# Altium integrated library Ferrite Chip.IntLib: 462 symbols (part 1 of 7)
Pins are listed as number, name and electrical type; pins without a type are passive.

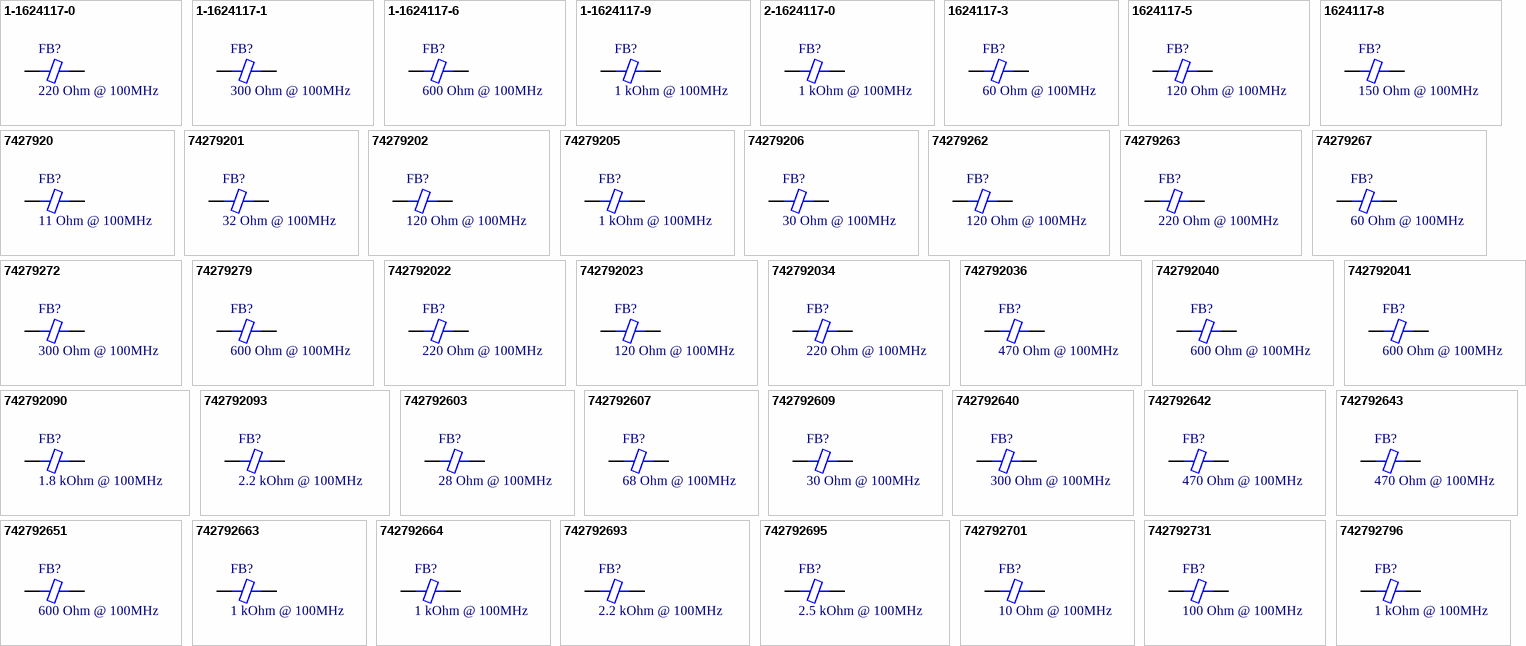
[diagram p0: symbols 1-1624117-0 to 742792796]

## 1-1624117-0
designator FB?, comment 220 Ohm @ 100MHz
FERRITE CHIP 220 OHM 250MA 0805; Part Number: 1-1624117-0; Manufacturer: TE Connectivity AMP Connectors; Type: Differential Mode - Single; DC Resistance: 500 mOhm Max; PartId: 6825; Value: 220 Ohm @ 100MHz; Supplier 1: Digi-Key; Supplier Part Number 1: A103650TR-ND; ComponentLink1Description: Datasheet; ComponentLink1URL: http://www.te.com/commerce/DocumentDelivery/DDEController?Action=srchrtrv&DocNm=1773178&DocType=DS&DocLang=English; ComponentLink2Description: Digi-Key listing; ComponentLink2URL: http://digikey.com/product-detail/en/1-1624117-0/A103650TR-ND/2055834; Price: 0.0445; Device Package: 0805 (2012 Metric); Current Rating: 250mA
footprint FER 0805/2012
pins: 1, 2

## 1-1624117-1
designator FB?, comment 300 Ohm @ 100MHz
FERRITE CHIP 300 OHM 250MA 0805; Part Number: 1-1624117-1; Manufacturer: TE Connectivity AMP Connectors; Type: Differential Mode - Single; DC Resistance: 500 mOhm Max; PartId: 6834; Value: 300 Ohm @ 100MHz; Supplier 1: Digi-Key; Supplier Part Number 1: A102195TR-ND; ComponentLink1Description: Datasheet; ComponentLink1URL: http://www.te.com/commerce/DocumentDelivery/DDEController?Action=srchrtrv&DocNm=1773178&DocType=DS&DocLang=English; ComponentLink2Description: Digi-Key listing; ComponentLink2URL: http://digikey.com/product-detail/en/1-1624117-1/A102195TR-ND/2054597; Price: 0.0617; Device Package: 0805 (2012 Metric); Current Rating: 250mA
footprint FER 0805/2012
pins: 1, 2

## 1-1624117-6
designator FB?, comment 600 Ohm @ 100MHz
FERRITE CHIP 600 OHM 200MA 0805; Part Number: 1-1624117-6; Manufacturer: TE Connectivity AMP Connectors; Type: Differential Mode - Single; DC Resistance: 600 mOhm Max; PartId: 6841; Value: 600 Ohm @ 100MHz; Supplier 1: Digi-Key; Supplier Part Number 1: A102196TR-ND; ComponentLink1Description: Datasheet; ComponentLink1URL: http://www.te.com/commerce/DocumentDelivery/DDEController?Action=srchrtrv&DocNm=1773179&DocType=DS&DocLang=English; ComponentLink2Description: Digi-Key listing; ComponentLink2URL: http://digikey.com/product-detail/en/1-1624117-6/A102196TR-ND/2054598; Price: 0.0789; Device Package: 0805 (2012 Metric); Current Rating: 200mA
footprint FER 0805/2012
pins: 1, 2

## 1-1624117-9
designator FB?, comment 1 kOhm @ 100MHz
FERRITE CHIP 1K OHM 200MA 0805; Part Number: 1-1624117-9; Manufacturer: TE Connectivity AMP Connectors; Type: Differential Mode - Single; DC Resistance: 800 mOhm Max; PartId: 6842; Value: 1 kOhm @ 100MHz; Supplier 1: Digi-Key; Supplier Part Number 1: A103651TR-ND; ComponentLink1Description: Datasheet; ComponentLink1URL: http://www.te.com/commerce/DocumentDelivery/DDEController?Action=srchrtrv&DocNm=1773179&DocType=DS&DocLang=English; ComponentLink2Description: Digi-Key listing; ComponentLink2URL: http://digikey.com/product-detail/en/1-1624117-9/A103651TR-ND/2055836; Price: 0.0855; Device Package: 0805 (2012 Metric); Current Rating: 200mA
footprint FER 0805/2012
pins: 1, 2

## 2-1624117-0
designator FB?, comment 1 kOhm @ 100MHz
FERRITE CHIP 1K OHM 350MA 0805; Part Number: 2-1624117-0; Manufacturer: TE Connectivity AMP Connectors; Type: Differential Mode - Single; DC Resistance: 300 mOhm Max; PartId: 6836; Value: 1 kOhm @ 100MHz; Supplier 1: Digi-Key; Supplier Part Number 1: A102197TR-ND; ComponentLink1Description: Datasheet; ComponentLink1URL: http://www.te.com/commerce/DocumentDelivery/DDEController?Action=srchrtrv&DocNm=1773181&DocType=DS&DocLang=English; ComponentLink2Description: Digi-Key listing; ComponentLink2URL: http://digikey.com/product-detail/en/2-1624117-0/A102197TR-ND/2054602; Price: 0.076; Device Package: 0805 (2012 Metric); Current Rating: 350mA
footprint FER 0805/2012
pins: 1, 2

## 1624117-3
designator FB?, comment 60 Ohm @ 100MHz
FERRITE CHIP 60 OHM 850MA 0805; Part Number: 1624117-3; Manufacturer: TE Connectivity AMP Connectors; Type: Differential Mode - Single; DC Resistance: 50 mOhm Max; PartId: 6835; Value: 60 Ohm @ 100MHz; Supplier 1: Digi-Key; Supplier Part Number 1: A102077TR-ND; ComponentLink1Description: Datasheet; ComponentLink1URL: http://www.te.com/commerce/DocumentDelivery/DDEController?Action=srchrtrv&DocNm=1773181&DocType=DS&DocLang=English; ComponentLink2Description: Digi-Key listing; ComponentLink2URL: http://digikey.com/product-detail/en/1624117-3/A102077TR-ND/2054600; Price: 0.0757; Device Package: 0805 (2012 Metric); Current Rating: 850mA
footprint FER 0805/2012
pins: 1, 2

## 1624117-5
designator FB?, comment 120 Ohm @ 100MHz
FERRITE CHIP 120 OHM 300MA 0805; Part Number: 1624117-5; Manufacturer: TE Connectivity AMP Connectors; Type: Differential Mode - Single; DC Resistance: 300 mOhm Max; PartId: 6827; Value: 120 Ohm @ 100MHz; Supplier 1: Digi-Key; Supplier Part Number 1: A102194TR-ND; ComponentLink1Description: Datasheet; ComponentLink1URL: http://www.te.com/commerce/DocumentDelivery/DDEController?Action=srchrtrv&DocNm=1773178&DocType=DS&DocLang=English; ComponentLink2Description: Digi-Key listing; ComponentLink2URL: http://digikey.com/product-detail/en/1624117-5/A102194TR-ND/2054601; Price: 0.0446; Device Package: 0805 (2012 Metric); Current Rating: 300mA
footprint FER 0805/2012
pins: 1, 2

## 1624117-8
designator FB?, comment 150 Ohm @ 100MHz
FERRITE CHIP 150 OHM 300MA 0805; Part Number: 1624117-8; Manufacturer: TE Connectivity AMP Connectors; Type: Differential Mode - Single; DC Resistance: 300 mOhm Max; PartId: 6826; Value: 150 Ohm @ 100MHz; Supplier 1: Digi-Key; Supplier Part Number 1: A102573TR-ND; ComponentLink1Description: Datasheet; ComponentLink1URL: http://www.te.com/commerce/DocumentDelivery/DDEController?Action=srchrtrv&DocNm=1773178&DocType=DS&DocLang=English; ComponentLink2Description: Digi-Key listing; ComponentLink2URL: http://digikey.com/product-detail/en/1624117-8/A102573TR-ND/2363608; Price: 0.0445; Device Package: 0805 (2012 Metric); Current Rating: 300mA
footprint FER 0805/2012
pins: 1, 2

## 7427920
designator FB?, comment 11 Ohm @ 100MHz
FERRITE CHIP 11 OHM .60A 0805; Part Number: 7427920; Manufacturer: Wurth Electronics Inc; Type: Differential Mode - Single; DC Resistance: 150 mOhm Max; Current Rating: 600mA; PartId: 6856; Value: 11 Ohm @ 100MHz; Supplier 1: Digi-Key; Supplier Part Number 1: 732-1616-2-ND; ComponentLink1Description: Datasheet; ComponentLink1URL: http://katalog.we-online.de/pbs/datasheet/7427920.pdf; ComponentLink2Description: Digi-Key listing; ComponentLink2URL: http://digikey.com/product-detail/en/7427920/732-1616-2-ND/1639020; Price: 0.2134; Device Package: 0805 (2012 Metric)
footprint FER 0805/2012
pins: 1, 2

## 74279201
designator FB?, comment 32 Ohm @ 100MHz
FERRITE CHIP 32 OHM .50A 0805; Part Number: 74279201; Manufacturer: Wurth Electronics Inc; Type: Differential Mode - Single; DC Resistance: 150 mOhm Max; Current Rating: 500mA; PartId: 6857; Value: 32 Ohm @ 100MHz; Supplier 1: Digi-Key; Supplier Part Number 1: 732-1599-2-ND; ComponentLink1Description: Datasheet; ComponentLink1URL: http://katalog.we-online.de/pbs/datasheet/74279201.pdf; ComponentLink2Description: Digi-Key listing; ComponentLink2URL: http://digikey.com/product-detail/en/74279201/732-1599-2-ND/1639003; Price: 0.2134; Device Package: 0805 (2012 Metric)
footprint FER 0805/2012
pins: 1, 2

## 74279202
designator FB?, comment 120 Ohm @ 100MHz
FERRITE CHIP 120 OHM .50A 0805; Part Number: 74279202; Manufacturer: Wurth Electronics Inc; Type: Differential Mode - Single; DC Resistance: 100 mOhm Max; Current Rating: 500mA; PartId: 6851; Value: 120 Ohm @ 100MHz; Supplier 1: Digi-Key; Supplier Part Number 1: 732-1601-2-ND; ComponentLink1Description: Datasheet; ComponentLink1URL: http://katalog.we-online.de/pbs/datasheet/74279202.pdf; ComponentLink2Description: Digi-Key listing; ComponentLink2URL: http://digikey.com/product-detail/en/74279202/732-1601-2-ND/1639005; Price: 0.2134; Device Package: 0805 (2012 Metric)
footprint FER 0805/2012
pins: 1, 2

## 74279205
designator FB?, comment 1 kOhm @ 100MHz
FERRITE CHIP 1000 OHM .20A 0805; Part Number: 74279205; Manufacturer: Wurth Electronics Inc; Type: Differential Mode - Single; DC Resistance: 450 mOhm Max; Current Rating: 200mA; PartId: 6850; Value: 1 kOhm @ 100MHz; Supplier 1: Digi-Key; Supplier Part Number 1: 732-1606-2-ND; ComponentLink1Description: Datasheet; ComponentLink1URL: http://katalog.we-online.de/pbs/datasheet/74279205.pdf; ComponentLink2Description: Digi-Key listing; ComponentLink2URL: http://digikey.com/product-detail/en/74279205/732-1606-2-ND/1639010; Price: 0.2134; Device Package: 0805 (2012 Metric)
footprint FER 0805/2012
pins: 1, 2

## 74279206
designator FB?, comment 30 Ohm @ 100MHz
FERRITE CHIP 30 OHM 3.0A 0805; Part Number: 74279206; Manufacturer: Wurth Electronics Inc; Type: Differential Mode - Single; DC Resistance: 25 mOhm Max; Current Rating: 3A; PartId: 6862; Value: 30 Ohm @ 100MHz; Supplier 1: Digi-Key; Supplier Part Number 1: 732-1611-2-ND; ComponentLink1Description: Datasheet; ComponentLink1URL: http://katalog.we-online.de/pbs/datasheet/74279206.pdf; ComponentLink2Description: Digi-Key listing; ComponentLink2URL: http://digikey.com/product-detail/en/74279206/732-1611-2-ND/1639015; Price: 0.2286; Device Package: 0805 (2012 Metric)
footprint FER 0805/2012
pins: 1, 2

## 74279262
designator FB?, comment 120 Ohm @ 100MHz
FERRITE CHIP 120 OHM .5A 0603; Part Number: 74279262; Manufacturer: Wurth Electronics Inc; Type: Differential Mode - Single; DC Resistance: 300 mOhm Max; Current Rating: 500mA; PartId: 6746; Value: 120 Ohm @ 100MHz; Supplier 1: Digi-Key; Supplier Part Number 1: 732-1594-2-ND; ComponentLink1Description: Datasheet; ComponentLink1URL: http://katalog.we-online.de/pbs/datasheet/74279262.pdf; ComponentLink2Description: Digi-Key listing; ComponentLink2URL: http://digikey.com/product-detail/en/74279262/732-1594-2-ND/1638998; Price: 0.1829; Device Package: 0603 (1608 Metric)
footprint FER 0603/1608
pins: 1, 2

## 74279263
designator FB?, comment 220 Ohm @ 100MHz
FERRITE CHIP 220 OHM .5A 0603; Part Number: 74279263; Manufacturer: Wurth Electronics Inc; Type: Differential Mode - Single; DC Resistance: 300 mOhm Max; Current Rating: 500mA; PartId: 6747; Value: 220 Ohm @ 100MHz; Supplier 1: Digi-Key; Supplier Part Number 1: 732-1581-2-ND; ComponentLink1Description: Datasheet; ComponentLink1URL: http://katalog.we-online.de/pbs/datasheet/74279263.pdf; ComponentLink2Description: Digi-Key listing; ComponentLink2URL: http://digikey.com/product-detail/en/74279263/732-1581-2-ND/1638985; Price: 0.1829; Device Package: 0603 (1608 Metric)
footprint FER 0603/1608
pins: 1, 2

## 74279267
designator FB?, comment 60 Ohm @ 100MHz
FERRITE CHIP 60 OHM .5A 0603; Part Number: 74279267; Manufacturer: Wurth Electronics Inc; Type: Differential Mode - Single; DC Resistance: 300 mOhm Max; Current Rating: 500mA; PartId: 6750; Value: 60 Ohm @ 100MHz; Supplier 1: Digi-Key; Supplier Part Number 1: 732-1595-2-ND; ComponentLink1Description: Datasheet; ComponentLink1URL: http://katalog.we-online.de/pbs/datasheet/74279267.pdf; ComponentLink2Description: Digi-Key listing; ComponentLink2URL: http://digikey.com/product-detail/en/74279267/732-1595-2-ND/1638999; Price: 0.1829; Device Package: 0603 (1608 Metric)
footprint FER 0603/1608
pins: 1, 2

## 74279272
designator FB?, comment 300 Ohm @ 100MHz
FERRITE CHIP 300 OHM .2A 0402; Part Number: 74279272; Manufacturer: Wurth Electronics Inc; Type: Differential Mode - Single; DC Resistance: 800 mOhm Max; Current Rating: 200mA; PartId: 6569; Value: 300 Ohm @ 100MHz; Supplier 1: Digi-Key; Supplier Part Number 1: 732-1572-2-ND; ComponentLink1Description: Datasheet; ComponentLink1URL: http://katalog.we-online.de/pbs/datasheet/74279272.pdf; ComponentLink2Description: Digi-Key listing; ComponentLink2URL: http://digikey.com/product-detail/en/74279272/732-1572-2-ND/1638976; Price: 0.1829; Device Package: 0402 (1005 Metric)
footprint FER 0402/1005
pins: 1, 2

## 74279279
designator FB?, comment 600 Ohm @ 100MHz
FERRITE CHIP 600 OHM .2A 0402; Part Number: 74279279; Manufacturer: Wurth Electronics Inc; Type: Differential Mode - Single; DC Resistance: 1 Ohm Max; Current Rating: 200mA; PartId: 6564; Value: 600 Ohm @ 100MHz; Supplier 1: Digi-Key; Supplier Part Number 1: 732-1573-2-ND; ComponentLink1Description: Datasheet; ComponentLink1URL: http://katalog.we-online.de/pbs/datasheet/74279279.pdf; ComponentLink2Description: Digi-Key listing; ComponentLink2URL: http://digikey.com/product-detail/en/74279279/732-1573-2-ND/1638977; Price: 0.1829; Device Package: 0402 (1005 Metric)
footprint FER 0402/1005
pins: 1, 2

## 742792022
designator FB?, comment 220 Ohm @ 100MHz
FERRITE CHIP 220 OHM 2.0A 0805; Part Number: 742792022; Manufacturer: Wurth Electronics Inc; Type: Differential Mode - Single; DC Resistance: 50 mOhm Max; Current Rating: 2A; PartId: 6861; Value: 220 Ohm @ 100MHz; Supplier 1: Digi-Key; Supplier Part Number 1: 732-1614-2-ND; ComponentLink1Description: Datasheet; ComponentLink1URL: http://katalog.we-online.de/pbs/datasheet/742792022.pdf; ComponentLink2Description: Digi-Key listing; ComponentLink2URL: http://digikey.com/product-detail/en/742792022/732-1614-2-ND/1639018; Price: 0.2286; Device Package: 0805 (2012 Metric)
footprint FER 0805/2012
pins: 1, 2

## 742792023
designator FB?, comment 120 Ohm @ 100MHz
FERRITE CHIP 120 OHM 3.0A 0805; Part Number: 742792023; Manufacturer: Wurth Electronics Inc; Type: Differential Mode - Single; DC Resistance: 30 mOhm Max; Current Rating: 3A; PartId: 6860; Value: 120 Ohm @ 100MHz; Supplier 1: Digi-Key; Supplier Part Number 1: 732-1613-2-ND; ComponentLink1Description: Datasheet; ComponentLink1URL: http://katalog.we-online.de/pbs/datasheet/742792023.pdf; ComponentLink2Description: Digi-Key listing; ComponentLink2URL: http://digikey.com/product-detail/en/742792023/732-1613-2-ND/1639017; Price: 0.2286; Device Package: 0805 (2012 Metric)
footprint FER 0805/2012
pins: 1, 2

## 742792034
designator FB?, comment 220 Ohm @ 100MHz
FERRITE CHIP 220 OHM .30A 0805; Part Number: 742792034; Manufacturer: Wurth Electronics Inc; Type: Differential Mode - Single; DC Resistance: 300 mOhm Max; Current Rating: 300mA; PartId: 6853; Value: 220 Ohm @ 100MHz; Supplier 1: Digi-Key; Supplier Part Number 1: 732-1602-2-ND; ComponentLink1Description: Datasheet; ComponentLink1URL: http://katalog.we-online.de/pbs/datasheet/742792034.pdf; ComponentLink2Description: Digi-Key listing; ComponentLink2URL: http://digikey.com/product-detail/en/742792034/732-1602-2-ND/1639006; Price: 0.2134; Device Package: 0805 (2012 Metric)
footprint FER 0805/2012
pins: 1, 2

## 742792036
designator FB?, comment 470 Ohm @ 100MHz
FERRITE CHIP 470 OHM .20A 0805; Part Number: 742792036; Manufacturer: Wurth Electronics Inc; Type: Differential Mode - Single; DC Resistance: 300 mOhm Max; Current Rating: 200mA; PartId: 6855; Value: 470 Ohm @ 100MHz; Supplier 1: Digi-Key; Supplier Part Number 1: 732-1603-2-ND; ComponentLink1Description: Datasheet; ComponentLink1URL: http://katalog.we-online.de/pbs/datasheet/742792036.pdf; ComponentLink2Description: Digi-Key listing; ComponentLink2URL: http://digikey.com/product-detail/en/742792036/732-1603-2-ND/1639007; Price: 0.2134; Device Package: 0805 (2012 Metric)
footprint FER 0805/2012
pins: 1, 2

## 742792040
designator FB?, comment 600 Ohm @ 100MHz
FERRITE CHIP 600 OHM 2.0A 0805; Part Number: 742792040; Manufacturer: Wurth Electronics Inc; Type: Differential Mode - Single; DC Resistance: 150 mOhm Max; Current Rating: 2A; PartId: 6859; Value: 600 Ohm @ 100MHz; Supplier 1: Digi-Key; Supplier Part Number 1: 732-1620-2-ND; ComponentLink1Description: Datasheet; ComponentLink1URL: http://katalog.we-online.de/pbs/datasheet/742792040.pdf; ComponentLink2Description: Digi-Key listing; ComponentLink2URL: http://digikey.com/product-detail/en/742792040/732-1620-2-ND/1639024; Price: 0.2286; Device Package: 0805 (2012 Metric)
footprint FER 0805/2012
pins: 1, 2

## 742792041
designator FB?, comment 600 Ohm @ 100MHz
FERRITE CHIP 600 OHM .20A 0805; Part Number: 742792041; Manufacturer: Wurth Electronics Inc; Type: Differential Mode - Single; DC Resistance: 400 mOhm Max; Current Rating: 200mA; PartId: 6858; Value: 600 Ohm @ 100MHz; Supplier 1: Digi-Key; Supplier Part Number 1: 732-1604-2-ND; ComponentLink1Description: Datasheet; ComponentLink1URL: http://katalog.we-online.de/pbs/datasheet/742792041.pdf; ComponentLink2Description: Digi-Key listing; ComponentLink2URL: http://digikey.com/product-detail/en/742792041/732-1604-2-ND/1639008; Price: 0.2134; Device Package: 0805 (2012 Metric)
footprint FER 0805/2012
pins: 1, 2

## 742792090
designator FB?, comment 1.8 kOhm @ 100MHz
FERRITE CHIP 1800 OHM .20A 0805; Part Number: 742792090; Manufacturer: Wurth Electronics Inc; Type: Differential Mode - Single; DC Resistance: 400 mOhm Max; Current Rating: 200mA; PartId: 6854; Value: 1.8 kOhm @ 100MHz; Supplier 1: Digi-Key; Supplier Part Number 1: 732-1608-2-ND; ComponentLink1Description: Datasheet; ComponentLink1URL: http://katalog.we-online.de/pbs/datasheet/742792090.pdf; ComponentLink2Description: Digi-Key listing; ComponentLink2URL: http://digikey.com/product-detail/en/742792090/732-1608-2-ND/1639012; Price: 0.2134; Device Package: 0805 (2012 Metric)
footprint FER 0805/2012
pins: 1, 2

## 742792093
designator FB?, comment 2.2 kOhm @ 100MHz
FERRITE CHIP 2200 OHM .20A 0805; Part Number: 742792093; Manufacturer: Wurth Electronics Inc; Type: Differential Mode - Single; DC Resistance: 600 mOhm Max; Current Rating: 200mA; PartId: 6852; Value: 2.2 kOhm @ 100MHz; Supplier 1: Digi-Key; Supplier Part Number 1: 732-1609-2-ND; ComponentLink1Description: Datasheet; ComponentLink1URL: http://katalog.we-online.de/pbs/datasheet/742792093.pdf; ComponentLink2Description: Digi-Key listing; ComponentLink2URL: http://digikey.com/product-detail/en/742792093/732-1609-2-ND/1639013; Price: 0.2134; Device Package: 0805 (2012 Metric)
footprint FER 0805/2012
pins: 1, 2

## 742792603
designator FB?, comment 28 Ohm @ 100MHz
FERRITE CHIP 28 OHM 4.0A 0603; Part Number: 742792603; Manufacturer: Wurth Electronics Inc; Type: Differential Mode - Single; DC Resistance: 30 mOhm Max; Current Rating: 4A; PartId: 6745; Value: 28 Ohm @ 100MHz; Supplier 1: Digi-Key; Supplier Part Number 1: 732-1590-2-ND; ComponentLink1Description: Datasheet; ComponentLink1URL: http://katalog.we-online.de/pbs/datasheet/742792603.pdf; ComponentLink2Description: Digi-Key listing; ComponentLink2URL: http://digikey.com/product-detail/en/742792603/732-1590-2-ND/1638994; Price: 0.1829; Device Package: 0603 (1608 Metric)
footprint FER 0603/1608
pins: 1, 2

## 742792607
designator FB?, comment 68 Ohm @ 100MHz
FERRITE CHIP 68 OHM .3A 0603; Part Number: 742792607; Manufacturer: Wurth Electronics Inc; Type: Differential Mode - Single; DC Resistance: 300 mOhm Max; Current Rating: 300mA; PartId: 6742; Value: 68 Ohm @ 100MHz; Supplier 1: Digi-Key; Supplier Part Number 1: 732-2267-2-ND; ComponentLink1Description: Datasheet; ComponentLink1URL: http://katalog.we-online.de/pbs/datasheet/742792607.pdf; ComponentLink2Description: Digi-Key listing; ComponentLink2URL: http://digikey.com/product-detail/en/742792607/732-2267-2-ND/2208843; Price: 0.1524; Device Package: 0603 (1608 Metric)
footprint FER 0603/1608
pins: 1, 2

## 742792609
designator FB?, comment 30 Ohm @ 100MHz
FERRITE CHIP 30 OHM 3.0A 0603; Part Number: 742792609; Manufacturer: Wurth Electronics Inc; Type: Differential Mode - Single; DC Resistance: 40 mOhm Max; Current Rating: 3A; PartId: 6744; Value: 30 Ohm @ 100MHz; Supplier 1: Digi-Key; Supplier Part Number 1: 732-1591-2-ND; ComponentLink1Description: Datasheet; ComponentLink1URL: http://katalog.we-online.de/pbs/datasheet/742792609.pdf; ComponentLink2Description: Digi-Key listing; ComponentLink2URL: http://digikey.com/product-detail/en/742792609/732-1591-2-ND/1638995; Price: 0.1829; Device Package: 0603 (1608 Metric)
footprint FER 0603/1608
pins: 1, 2

## 742792640
designator FB?, comment 300 Ohm @ 100MHz
FERRITE CHIP 300 OHM .3A 0603; Part Number: 742792640; Manufacturer: Wurth Electronics Inc; Type: Differential Mode - Single; DC Resistance: 350 mOhm Max; Current Rating: 300mA; PartId: 6738; Value: 300 Ohm @ 100MHz; Supplier 1: Digi-Key; Supplier Part Number 1: 732-1578-2-ND; ComponentLink1Description: Datasheet; ComponentLink1URL: http://katalog.we-online.de/pbs/datasheet/742792640.pdf; ComponentLink2Description: Digi-Key listing; ComponentLink2URL: http://digikey.com/product-detail/en/742792640/732-1578-2-ND/1638982; Price: 0.1524; Device Package: 0603 (1608 Metric)
footprint FER 0603/1608
pins: 1, 2

## 742792642
designator FB?, comment 470 Ohm @ 100MHz
FERRITE CHIP 470 OHM .2A 0603; Part Number: 742792642; Manufacturer: Wurth Electronics Inc; Type: Differential Mode - Single; DC Resistance: 450 mOhm Max; Current Rating: 200mA; PartId: 6751; Value: 470 Ohm @ 100MHz; Supplier 1: Digi-Key; Supplier Part Number 1: 732-1582-2-ND; ComponentLink1Description: Datasheet; ComponentLink1URL: http://katalog.we-online.de/pbs/datasheet/742792642.pdf; ComponentLink2Description: Digi-Key listing; ComponentLink2URL: http://digikey.com/product-detail/en/742792642/732-1582-2-ND/1638986; Price: 0.1829; Device Package: 0603 (1608 Metric)
footprint FER 0603/1608
pins: 1, 2

## 742792643
designator FB?, comment 470 Ohm @ 100MHz
FERRITE CHIP 470 OHM .4A 0603; Part Number: 742792643; Manufacturer: Wurth Electronics Inc; Type: Differential Mode - Single; DC Resistance: 350 mOhm Max; Current Rating: 400mA; PartId: 6739; Value: 470 Ohm @ 100MHz; Supplier 1: Digi-Key; Supplier Part Number 1: 732-2266-2-ND; ComponentLink1Description: Datasheet; ComponentLink1URL: http://katalog.we-online.de/pbs/datasheet/742792643.pdf; ComponentLink2Description: Digi-Key listing; ComponentLink2URL: http://digikey.com/product-detail/en/742792643/732-2266-2-ND/2208842; Price: 0.1524; Device Package: 0603 (1608 Metric)
footprint FER 0603/1608
pins: 1, 2

## 742792651
designator FB?, comment 600 Ohm @ 100MHz
FERRITE CHIP 600 OHM 1.0A 0603; Part Number: 742792651; Manufacturer: Wurth Electronics Inc; Type: Differential Mode - Single; DC Resistance: 200 mOhm Max; Current Rating: 1A; PartId: 6743; Value: 600 Ohm @ 100MHz; Supplier 1: Digi-Key; Supplier Part Number 1: 732-1593-2-ND; ComponentLink1Description: Datasheet; ComponentLink1URL: http://katalog.we-online.de/pbs/datasheet/742792651.pdf; ComponentLink2Description: Digi-Key listing; ComponentLink2URL: http://digikey.com/product-detail/en/742792651/732-1593-2-ND/1638997; Price: 0.1829; Device Package: 0603 (1608 Metric)
footprint FER 0603/1608
pins: 1, 2

## 742792663
designator FB?, comment 1 kOhm @ 100MHz
FERRITE CHIP 1000 OHM .1A 0603; Part Number: 742792663; Manufacturer: Wurth Electronics Inc; Type: Differential Mode - Single; DC Resistance: 850 mOhm Max; Current Rating: 100mA; PartId: 6741; Value: 1 kOhm @ 100MHz; Supplier 1: Digi-Key; Supplier Part Number 1: 732-1585-2-ND; ComponentLink1Description: Datasheet; ComponentLink1URL: http://katalog.we-online.de/pbs/datasheet/742792663.pdf; ComponentLink2Description: Digi-Key listing; ComponentLink2URL: http://digikey.com/product-detail/en/742792663/732-1585-2-ND/1638989; Price: 0.1524; Device Package: 0603 (1608 Metric)
footprint FER 0603/1608
pins: 1, 2

## 742792664
designator FB?, comment 1 kOhm @ 100MHz
FERRITE CHIP 1000 OHM .3A 0603; Part Number: 742792664; Manufacturer: Wurth Electronics Inc; Type: Differential Mode - Single; DC Resistance: 600 mOhm Max; Current Rating: 300mA; PartId: 6740; Value: 1 kOhm @ 100MHz; Supplier 1: Digi-Key; Supplier Part Number 1: 732-1586-2-ND; ComponentLink1Description: Datasheet; ComponentLink1URL: http://katalog.we-online.de/pbs/datasheet/742792664.pdf; ComponentLink2Description: Digi-Key listing; ComponentLink2URL: http://digikey.com/product-detail/en/742792664/732-1586-2-ND/1638990; Price: 0.1524; Device Package: 0603 (1608 Metric)
footprint FER 0603/1608
pins: 1, 2

## 742792693
designator FB?, comment 2.2 kOhm @ 100MHz
FERRITE CHIP 2200 OHM .05A 0603; Part Number: 742792693; Manufacturer: Wurth Electronics Inc; Type: Differential Mode - Single; DC Resistance: 800 mOhm Max; Current Rating: 50mA; PartId: 6748; Value: 2.2 kOhm @ 100MHz; Supplier 1: Digi-Key; Supplier Part Number 1: 732-1588-2-ND; ComponentLink1Description: Datasheet; ComponentLink1URL: http://katalog.we-online.de/pbs/datasheet/742792693.pdf; ComponentLink2Description: Digi-Key listing; ComponentLink2URL: http://digikey.com/product-detail/en/742792693/732-1588-2-ND/1638992; Price: 0.1829; Device Package: 0603 (1608 Metric)
footprint FER 0603/1608
pins: 1, 2

## 742792695
designator FB?, comment 2.5 kOhm @ 100MHz
FERRITE CHIP 2500 OHM .05A 0603; Part Number: 742792695; Manufacturer: Wurth Electronics Inc; Type: Differential Mode - Single; DC Resistance: 1 Ohm Max; Current Rating: 50mA; PartId: 6749; Value: 2.5 kOhm @ 100MHz; Supplier 1: Digi-Key; Supplier Part Number 1: 732-1589-2-ND; ComponentLink1Description: Datasheet; ComponentLink1URL: http://katalog.we-online.de/pbs/datasheet/742792695.pdf; ComponentLink2Description: Digi-Key listing; ComponentLink2URL: http://digikey.com/product-detail/en/742792695/732-1589-2-ND/1638993; Price: 0.1829; Device Package: 0603 (1608 Metric)
footprint FER 0603/1608
pins: 1, 2

## 742792701
designator FB?, comment 10 Ohm @ 100MHz
FERRITE CHIP 10 OHM .5A 0402; Part Number: 742792701; Manufacturer: Wurth Electronics Inc; Type: Differential Mode - Single; DC Resistance: 50 mOhm Max; Current Rating: 500mA; PartId: 6563; Value: 10 Ohm @ 100MHz; Supplier 1: Digi-Key; Supplier Part Number 1: 732-1566-2-ND; ComponentLink1Description: Datasheet; ComponentLink1URL: http://katalog.we-online.de/pbs/datasheet/742792701.pdf; ComponentLink2Description: Digi-Key listing; ComponentLink2URL: http://digikey.com/product-detail/en/742792701/732-1566-2-ND/1638970; Price: 0.1829; Device Package: 0402 (1005 Metric)
footprint FER 0402/1005
pins: 1, 2

## 742792731
designator FB?, comment 100 Ohm @ 100MHz
FERRITE CHIP 100 OHM 1.2A 0402; Part Number: 742792731; Manufacturer: Wurth Electronics Inc; Type: Differential Mode - Single; DC Resistance: 90 mOhm Max; PartId: 6566; Value: 100 Ohm @ 100MHz; Supplier 1: Digi-Key; Supplier Part Number 1: 732-2362-2-ND; ComponentLink1Description: Datasheet; ComponentLink1URL: http://katalog.we-online.de/pbs/datasheet/742792731.pdf; ComponentLink2Description: Digi-Key listing; ComponentLink2URL: http://digikey.com/product-detail/en/742792731/732-2362-2-ND/2268565; Price: 0.1829; Device Package: 0402 (1005 Metric); Current Rating: 1.2A
footprint FER 0402/1005
pins: 1, 2

## 742792796
designator FB?, comment 1 kOhm @ 100MHz
FERRITE CHIP 1000 OHM .20A 0402; Part Number: 742792796; Manufacturer: Wurth Electronics Inc; Type: Differential Mode - Single; DC Resistance: 1.5 Ohm Max; Current Rating: 200mA; PartId: 6562; Value: 1 kOhm @ 100MHz; Supplier 1: Digi-Key; Supplier Part Number 1: 732-2132-2-ND; ComponentLink1Description: Datasheet; ComponentLink1URL: http://katalog.we-online.de/pbs/datasheet/742792796.pdf; ComponentLink2Description: Digi-Key listing; ComponentLink2URL: http://digikey.com/product-detail/en/742792796/732-2132-2-ND/2137929; Price: 0.1262; Device Package: 0402 (1005 Metric)
footprint FER 0402/1005
pins: 1, 2

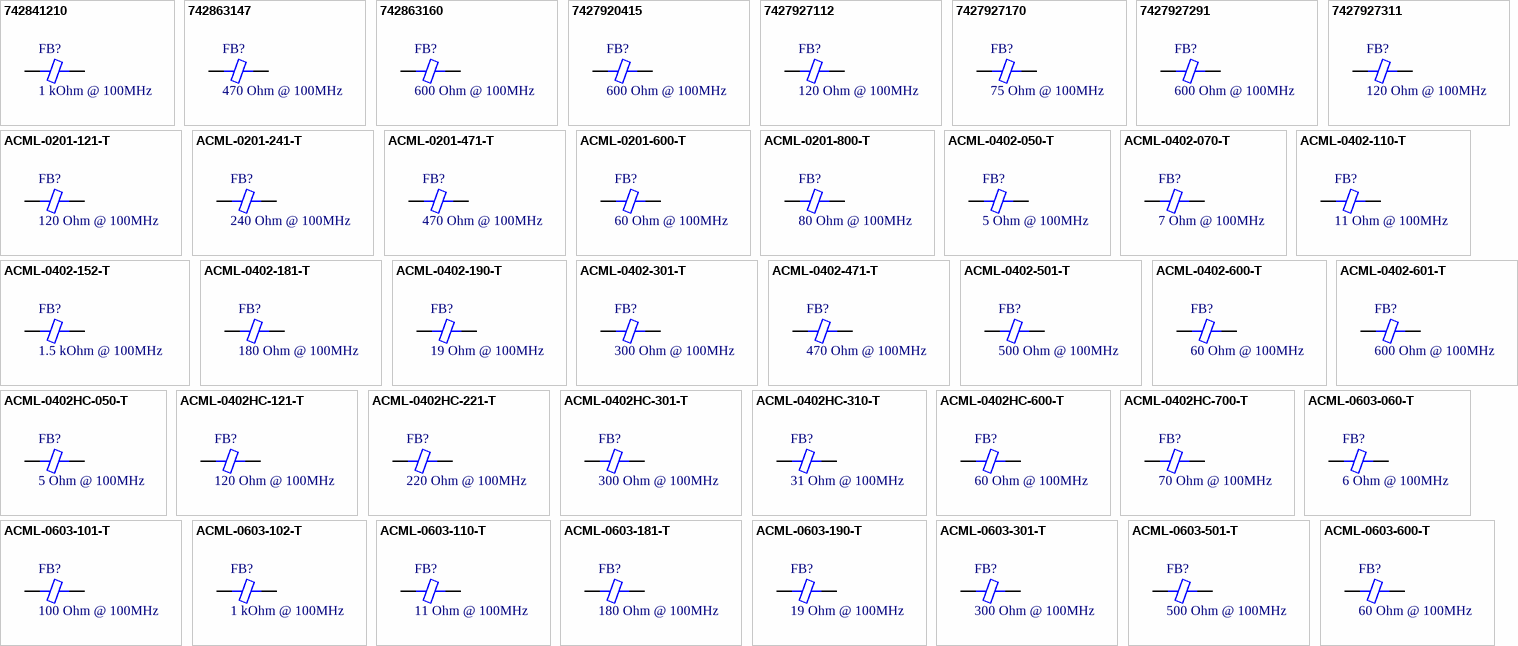
[diagram p1: symbols 742841210 to ACML-0603-600-T]

## 742841210
designator FB?, comment 1 kOhm @ 100MHz
FERRITE CHIP 1000 OHM .05A 0402; Part Number: 742841210; Manufacturer: Wurth Electronics Inc; Type: Differential Mode - Single; DC Resistance: 1.8 Ohm Max; Current Rating: 50mA; PartId: 6573; Value: 1 kOhm @ 100MHz; Supplier 1: Digi-Key; Supplier Part Number 1: 732-2363-2-ND; ComponentLink1Description: Datasheet; ComponentLink1URL: http://katalog.we-online.de/pbs/datasheet/742841210.pdf; ComponentLink2Description: Digi-Key listing; ComponentLink2URL: http://digikey.com/product-detail/en/742841210/732-2363-2-ND/2268566; Price: 0.26; Device Package: 0402 (1005 Metric)
footprint FER 0402/1005
pins: 1, 2

## 742863147
designator FB?, comment 470 Ohm @ 100MHz
FERRITE CHIP 470 OHM .50A 0603; Part Number: 742863147; Manufacturer: Wurth Electronics Inc; Type: Differential Mode - Single; DC Resistance: 320 mOhm Max; Current Rating: 500mA; PartId: 6753; Value: 470 Ohm @ 100MHz; Supplier 1: Digi-Key; Supplier Part Number 1: 732-2380-2-ND; ComponentLink1Description: Datasheet; ComponentLink1URL: http://katalog.we-online.de/pbs/datasheet/742863147.pdf; ComponentLink2Description: Digi-Key listing; ComponentLink2URL: http://digikey.com/product-detail/en/742863147/732-2380-2-ND/2268583; Price: 0.234; Device Package: 0603 (1608 Metric)
footprint FER 0603/1608
pins: 1, 2

## 742863160
designator FB?, comment 600 Ohm @ 100MHz
FERRITE CHIP 600 OHM .50A 0603; Part Number: 742863160; Manufacturer: Wurth Electronics Inc; Type: Differential Mode - Single; DC Resistance: 350 mOhm Max; Current Rating: 500mA; PartId: 6752; Value: 600 Ohm @ 100MHz; Supplier 1: Digi-Key; Supplier Part Number 1: 732-2389-2-ND; ComponentLink1Description: Datasheet; ComponentLink1URL: http://katalog.we-online.de/pbs/datasheet/742863160.pdf; ComponentLink2Description: Digi-Key listing; ComponentLink2URL: http://digikey.com/product-detail/en/742863160/732-2389-2-ND/2268591; Price: 0.234; Device Package: 0603 (1608 Metric)
footprint FER 0603/1608
pins: 1, 2

## 7427920415
designator FB?, comment 600 Ohm @ 100MHz
FERRITE CHIP 600 OHM .50A 0805; Part Number: 7427920415; Manufacturer: Wurth Electronics Inc; Type: Differential Mode - Single; DC Resistance: 300 mOhm Max; Current Rating: 500mA; PartId: 6849; Value: 600 Ohm @ 100MHz; Supplier 1: Digi-Key; Supplier Part Number 1: 732-1605-2-ND; ComponentLink1Description: Datasheet; ComponentLink1URL: http://katalog.we-online.de/pbs/datasheet/7427920415.pdf; ComponentLink2Description: Digi-Key listing; ComponentLink2URL: http://digikey.com/product-detail/en/7427920415/732-1605-2-ND/1639009; Price: 0.2134; Device Package: 0805 (2012 Metric)
footprint FER 0805/2012
pins: 1, 2

## 7427927112
designator FB?, comment 120 Ohm @ 100MHz
FERRITE CHIP 120 OHM .35A 0402; Part Number: 7427927112; Manufacturer: Wurth Electronics Inc; Type: Differential Mode - Single; DC Resistance: 350 mOhm Max; Current Rating: 350mA; PartId: 6568; Value: 120 Ohm @ 100MHz; Supplier 1: Digi-Key; Supplier Part Number 1: 732-2365-2-ND; ComponentLink1Description: Datasheet; ComponentLink1URL: http://katalog.we-online.de/pbs/datasheet/7427927112.pdf; ComponentLink2Description: Digi-Key listing; ComponentLink2URL: http://digikey.com/product-detail/en/7427927112/732-2365-2-ND/2268568; Price: 0.1829; Device Package: 0402 (1005 Metric)
footprint FER 0402/1005
pins: 1, 2

## 7427927170
designator FB?, comment 75 Ohm @ 100MHz
FERRITE CHIP 75 OHM .30A 0402; Part Number: 7427927170; Manufacturer: Wurth Electronics Inc; Type: Differential Mode - Single; DC Resistance: 310 mOhm Max; Current Rating: 400mA; PartId: 6571; Value: 75 Ohm @ 100MHz; Supplier 1: Digi-Key; Supplier Part Number 1: 732-2391-2-ND; ComponentLink1Description: Datasheet; ComponentLink1URL: http://katalog.we-online.de/pbs/datasheet/7427927170.pdf; ComponentLink2Description: Digi-Key listing; ComponentLink2URL: http://digikey.com/product-detail/en/7427927170/732-2391-2-ND/2268593; Price: 0.1829; Device Package: 0402 (1005 Metric)
footprint FER 0402/1005
pins: 1, 2

## 7427927291
designator FB?, comment 600 Ohm @ 100MHz
FERRITE CHIP 600 OHM .30A 0402; Part Number: 7427927291; Manufacturer: Wurth Electronics Inc; Type: Differential Mode - Single; DC Resistance: 600 mOhm Max; Current Rating: 300mA; PartId: 6565; Value: 600 Ohm @ 100MHz; Supplier 1: Digi-Key; Supplier Part Number 1: 732-2388-2-ND; ComponentLink1Description: Datasheet; ComponentLink1URL: http://katalog.we-online.de/pbs/datasheet/7427927291.pdf; ComponentLink2Description: Digi-Key listing; ComponentLink2URL: http://digikey.com/product-detail/en/7427927291/732-2388-2-ND/2268590; Price: 0.1829; Device Package: 0402 (1005 Metric)
footprint FER 0402/1005
pins: 1, 2

## 7427927311
designator FB?, comment 120 Ohm @ 100MHz
FERRITE CHIP 120 OHM 1.2A 0402; Part Number: 7427927311; Manufacturer: Wurth Electronics Inc; Type: Differential Mode - Single; DC Resistance: 90 mOhm Max; PartId: 6567; Value: 120 Ohm @ 100MHz; Supplier 1: Digi-Key; Supplier Part Number 1: 732-2366-2-ND; ComponentLink1Description: Datasheet; ComponentLink1URL: http://katalog.we-online.de/pbs/datasheet/7427927311.pdf; ComponentLink2Description: Digi-Key listing; ComponentLink2URL: http://digikey.com/product-detail/en/7427927311/732-2366-2-ND/2268569; Price: 0.1829; Device Package: 0402 (1005 Metric); Current Rating: 1.2A
footprint FER 0402/1005
pins: 1, 2

## ACML-0201-121-T
designator FB?, comment 120 Ohm @ 100MHz
FERRITE BEAD 120 OHM 0201 1LN; Part Number: ACML-0201-121-T; Manufacturer: Abracon LLC; DC Resistance: 800 mOhm; Current Rating: 200mA; PartId: 20382; Value: 120 Ohm @ 100MHz; Supplier 1: Digi-Key; Supplier Part Number 1: 535-12202-2-ND; ComponentLink1Description: Datasheet; ComponentLink1URL: http://www.abracon.com/Magnetics/new/ACML-0201.pdf; ComponentLink2Description: Digi-Key Listing; ComponentLink2URL: https://www.digikey.com/product-detail/en/abracon-llc/ACML-0201-121-T/535-12202-2-ND/4215089; Price: 0.0182; Device Package: 0201 (0603 Metric)
footprint FER 0201/0603
pins: 1, 2

## ACML-0201-241-T
designator FB?, comment 240 Ohm @ 100MHz
FERRITE BEAD 240 OHM 0201 1LN; Part Number: ACML-0201-241-T; Manufacturer: Abracon LLC; DC Resistance: 1 Ohm; Current Rating: 200mA; PartId: 20383; Value: 240 Ohm @ 100MHz; Supplier 1: Digi-Key; Supplier Part Number 1: 535-12203-2-ND; ComponentLink1Description: Datasheet; ComponentLink1URL: http://www.abracon.com/Magnetics/new/ACML-0201.pdf; ComponentLink2Description: Digi-Key Listing; ComponentLink2URL: https://www.digikey.com/product-detail/en/abracon-llc/ACML-0201-241-T/535-12203-2-ND/4215090; Price: 0.0182; Device Package: 0201 (0603 Metric)
footprint FER 0201/0603
pins: 1, 2

## ACML-0201-471-T
designator FB?, comment 470 Ohm @ 100MHz
FERRITE BEAD 470 OHM 0201 1LN; Part Number: ACML-0201-471-T; Manufacturer: Abracon LLC; DC Resistance: 1.4 Ohm; Current Rating: 200mA; PartId: 20384; Value: 470 Ohm @ 100MHz; Supplier 1: Digi-Key; Supplier Part Number 1: 535-12204-2-ND; ComponentLink1Description: Datasheet; ComponentLink1URL: http://www.abracon.com/Magnetics/new/ACML-0201.pdf; ComponentLink2Description: Digi-Key Listing; ComponentLink2URL: https://www.digikey.com/product-detail/en/abracon-llc/ACML-0201-471-T/535-12204-2-ND/4215091; Price: 0.0182; Device Package: 0201 (0603 Metric)
footprint FER 0201/0603
pins: 1, 2

## ACML-0201-600-T
designator FB?, comment 60 Ohm @ 100MHz
FERRITE BEAD 60 OHM 0201 1LN; Part Number: ACML-0201-600-T; Manufacturer: Abracon LLC; DC Resistance: 400 mOhm; Current Rating: 200mA; PartId: 20396; Value: 60 Ohm @ 100MHz; Supplier 1: Digi-Key; Supplier Part Number 1: 535-12206-2-ND; ComponentLink1Description: Datasheet; ComponentLink1URL: http://www.abracon.com/Magnetics/new/ACML-0201.pdf; ComponentLink2Description: Digi-Key Listing; ComponentLink2URL: https://www.digikey.com/product-detail/en/abracon-llc/ACML-0201-600-T/535-12206-2-ND/4215093; Price: 0.0168; Device Package: 0201 (0603 Metric)
footprint FER 0201/0603
pins: 1, 2

## ACML-0201-800-T
designator FB?, comment 80 Ohm @ 100MHz
FERRITE BEAD 80 OHM 0201 1LN; Part Number: ACML-0201-800-T; Manufacturer: Abracon LLC; DC Resistance: 600 mOhm; Current Rating: 200mA; PartId: 20397; Value: 80 Ohm @ 100MHz; Supplier 1: Digi-Key; Supplier Part Number 1: 535-12207-2-ND; ComponentLink1Description: Datasheet; ComponentLink1URL: http://www.abracon.com/Magnetics/new/ACML-0201.pdf; ComponentLink2Description: Digi-Key Listing; ComponentLink2URL: https://www.digikey.com/product-detail/en/abracon-llc/ACML-0201-800-T/535-12207-2-ND/4215094; Price: 0.0168; Device Package: 0201 (0603 Metric)
footprint FER 0201/0603
pins: 1, 2

## ACML-0402-050-T
designator FB?, comment 5 Ohm @ 100MHz
FERRITE CHIP 5 OHM 0402; Part Number: ACML-0402-050-T; Manufacturer: Abracon LLC; Type: Differential Mode - Single; DC Resistance: 50 mOhm Max; Current Rating: 500mA; PartId: 6518; Value: 5 Ohm @ 100MHz; Supplier 1: Digi-Key; Supplier Part Number 1: ACML-0402-050-TTR-ND; ComponentLink1Description: Datasheet; ComponentLink1URL: http://www.abracon.com/Magnetics/new/ACML-0402.pdf; ComponentLink2Description: Digi-Key listing; ComponentLink2URL: http://digikey.com/product-detail/en/ACML-0402-050-T/ACML-0402-050-TTR-ND/2343439; Price: 0.0301; Device Package: 0402 (1005 Metric)
footprint FER 0402/1005
pins: 1, 2

## ACML-0402-070-T
designator FB?, comment 7 Ohm @ 100MHz
FERRITE CHIP 7 OHM 0402; Part Number: ACML-0402-070-T; Manufacturer: Abracon LLC; Type: Differential Mode - Single; DC Resistance: 50 mOhm Max; Current Rating: 500mA; PartId: 6519; Value: 7 Ohm @ 100MHz; Supplier 1: Digi-Key; Supplier Part Number 1: ACML-0402-070-TTR-ND; ComponentLink1Description: Datasheet; ComponentLink1URL: http://www.abracon.com/Magnetics/new/ACML-0402.pdf; ComponentLink2Description: Digi-Key listing; ComponentLink2URL: http://digikey.com/product-detail/en/ACML-0402-070-T/ACML-0402-070-TTR-ND/2343440; Price: 0.0301; Device Package: 0402 (1005 Metric)
footprint FER 0402/1005
pins: 1, 2

## ACML-0402-110-T
designator FB?, comment 11 Ohm @ 100MHz
FERRITE CHIP 11 OHM 0402; Part Number: ACML-0402-110-T; Manufacturer: Abracon LLC; Type: Differential Mode - Single; DC Resistance: 50 mOhm Max; Current Rating: 500mA; PartId: 6514; Value: 11 Ohm @ 100MHz; Supplier 1: Digi-Key; Supplier Part Number 1: ACML-0402-110-TTR-ND; ComponentLink1Description: Datasheet; ComponentLink1URL: http://www.abracon.com/Magnetics/new/ACML-0402.pdf; ComponentLink2Description: Digi-Key listing; ComponentLink2URL: http://digikey.com/product-detail/en/ACML-0402-110-T/ACML-0402-110-TTR-ND/2343441; Price: 0.0301; Device Package: 0402 (1005 Metric)
footprint FER 0402/1005
pins: 1, 2

## ACML-0402-152-T
designator FB?, comment 1.5 kOhm @ 100MHz
FERRITE CHIP 1500 OHM 0402; Part Number: ACML-0402-152-T; Manufacturer: Abracon LLC; Type: Differential Mode - Single; DC Resistance: 1.6 Ohm Max; Current Rating: 100mA; PartId: 6525; Value: 1.5 kOhm @ 100MHz; Supplier 1: Digi-Key; Supplier Part Number 1: ACML-0402-152-TTR-ND; ComponentLink1Description: Datasheet; ComponentLink1URL: http://www.abracon.com/Magnetics/new/ACML-0402.pdf; ComponentLink2Description: Digi-Key listing; ComponentLink2URL: http://digikey.com/product-detail/en/ACML-0402-152-T/ACML-0402-152-TTR-ND/2343455; Price: 0.0321; Device Package: 0402 (1005 Metric)
footprint FER 0402/1005
pins: 1, 2

## ACML-0402-181-T
designator FB?, comment 180 Ohm @ 100MHz
FERRITE CHIP 180 OHM 0402; Part Number: ACML-0402-181-T; Manufacturer: Abracon LLC; Type: Differential Mode - Single; DC Resistance: 500 mOhm Max; Current Rating: 150mA; PartId: 6521; Value: 180 Ohm @ 100MHz; Supplier 1: Digi-Key; Supplier Part Number 1: ACML-0402-181-TTR-ND; ComponentLink1Description: Datasheet; ComponentLink1URL: http://www.abracon.com/Magnetics/new/ACML-0402.pdf; ComponentLink2Description: Digi-Key listing; ComponentLink2URL: http://digikey.com/product-detail/en/ACML-0402-181-T/ACML-0402-181-TTR-ND/2343447; Price: 0.0301; Device Package: 0402 (1005 Metric)
footprint FER 0402/1005
pins: 1, 2

## ACML-0402-190-T
designator FB?, comment 19 Ohm @ 100MHz
FERRITE CHIP 19 OHM 0402; Part Number: ACML-0402-190-T; Manufacturer: Abracon LLC; Type: Differential Mode - Single; DC Resistance: 50 mOhm Max; Current Rating: 300mA; PartId: 6516; Value: 19 Ohm @ 100MHz; Supplier 1: Digi-Key; Supplier Part Number 1: ACML-0402-190-TTR-ND; ComponentLink1Description: Datasheet; ComponentLink1URL: http://www.abracon.com/Magnetics/new/ACML-0402.pdf; ComponentLink2Description: Digi-Key listing; ComponentLink2URL: http://digikey.com/product-detail/en/ACML-0402-190-T/ACML-0402-190-TTR-ND/2343442; Price: 0.0301; Device Package: 0402 (1005 Metric)
footprint FER 0402/1005
pins: 1, 2

## ACML-0402-301-T
designator FB?, comment 300 Ohm @ 100MHz
FERRITE CHIP 300 OHM 0402; Part Number: ACML-0402-301-T; Manufacturer: Abracon LLC; Type: Differential Mode - Single; DC Resistance: 650 mOhm Max; Current Rating: 100mA; PartId: 6512; Value: 300 Ohm @ 100MHz; Supplier 1: Digi-Key; Supplier Part Number 1: ACML-0402-301-TTR-ND; ComponentLink1Description: Datasheet; ComponentLink1URL: http://www.abracon.com/Magnetics/new/ACML-0402.pdf; ComponentLink2Description: Digi-Key listing; ComponentLink2URL: http://digikey.com/product-detail/en/ACML-0402-301-T/ACML-0402-301-TTR-ND/2343450; Price: 0.0301; Device Package: 0402 (1005 Metric)
footprint FER 0402/1005
pins: 1, 2

## ACML-0402-471-T
designator FB?, comment 470 Ohm @ 100MHz
FERRITE CHIP 470 OHM 0402; Part Number: ACML-0402-471-T; Manufacturer: Abracon LLC; Type: Differential Mode - Single; DC Resistance: 800 mOhm Max; Current Rating: 100mA; PartId: 6522; Value: 470 Ohm @ 100MHz; Supplier 1: Digi-Key; Supplier Part Number 1: ACML-0402-471-TTR-ND; ComponentLink1Description: Datasheet; ComponentLink1URL: http://www.abracon.com/Magnetics/new/ACML-0402.pdf; ComponentLink2Description: Digi-Key listing; ComponentLink2URL: http://digikey.com/product-detail/en/ACML-0402-471-T/ACML-0402-471-TTR-ND/2343451; Price: 0.0301; Device Package: 0402 (1005 Metric)
footprint FER 0402/1005
pins: 1, 2

## ACML-0402-501-T
designator FB?, comment 500 Ohm @ 100MHz
FERRITE CHIP 500 OHM 0402; Part Number: ACML-0402-501-T; Manufacturer: Abracon LLC; Type: Differential Mode - Single; DC Resistance: 800 mOhm Max; Current Rating: 100mA; PartId: 6523; Value: 500 Ohm @ 100MHz; Supplier 1: Digi-Key; Supplier Part Number 1: ACML-0402-501-TTR-ND; ComponentLink1Description: Datasheet; ComponentLink1URL: http://www.abracon.com/Magnetics/new/ACML-0402.pdf; ComponentLink2Description: Digi-Key listing; ComponentLink2URL: http://digikey.com/product-detail/en/ACML-0402-501-T/ACML-0402-501-TTR-ND/2343452; Price: 0.0301; Device Package: 0402 (1005 Metric)
footprint FER 0402/1005
pins: 1, 2

## ACML-0402-600-T
designator FB?, comment 60 Ohm @ 100MHz
FERRITE CHIP 60 OHM 0402; Part Number: ACML-0402-600-T; Manufacturer: Abracon LLC; Type: Differential Mode - Single; DC Resistance: 300 mOhm Max; Current Rating: 200mA; PartId: 6520; Value: 60 Ohm @ 100MHz; Supplier 1: Digi-Key; Supplier Part Number 1: ACML-0402-600-TTR-ND; ComponentLink1Description: Datasheet; ComponentLink1URL: http://www.abracon.com/Magnetics/new/ACML-0402.pdf; ComponentLink2Description: Digi-Key listing; ComponentLink2URL: http://digikey.com/product-detail/en/ACML-0402-600-T/ACML-0402-600-TTR-ND/2343444; Price: 0.0301; Device Package: 0402 (1005 Metric)
footprint FER 0402/1005
pins: 1, 2

## ACML-0402-601-T
designator FB?, comment 600 Ohm @ 100MHz
FERRITE CHIP 600 OHM 0402; Part Number: ACML-0402-601-T; Manufacturer: Abracon LLC; Type: Differential Mode - Single; DC Resistance: 1 Ohm Max; Current Rating: 100mA; PartId: 6517; Value: 600 Ohm @ 100MHz; Supplier 1: Digi-Key; Supplier Part Number 1: ACML-0402-601-TTR-ND; ComponentLink1Description: Datasheet; ComponentLink1URL: http://www.abracon.com/Magnetics/new/ACML-0402.pdf; ComponentLink2Description: Digi-Key listing; ComponentLink2URL: http://digikey.com/product-detail/en/ACML-0402-601-T/ACML-0402-601-TTR-ND/2343453; Price: 0.0301; Device Package: 0402 (1005 Metric)
footprint FER 0402/1005
pins: 1, 2

## ACML-0402HC-050-T
designator FB?, comment 5 Ohm @ 100MHz
FERRITE CHIP 5 OHM 2000MA 0402; Part Number: ACML-0402HC-050-T; Manufacturer: Abracon LLC; DC Resistance: 50 mOhm; Current Rating: 2A; PartId: 6484; Value: 5 Ohm @ 100MHz; Supplier 1: Digi-Key; Supplier Part Number 1: 535-12541-2-ND; ComponentLink1Description: Datasheet; ComponentLink1URL: http://abracon.com/Magnetics/chips/ACML-0402HC.pdf; ComponentLink2Description: Digi-Key listing; ComponentLink2URL: http://digikey.com/product-detail/en/ACML-0402HC-050-T/535-12541-2-ND/4696679; Price: 0.025; Type: -; Device Package: 0402 (1005 Metric)
footprint FER 0402/1005
pins: 1, 2

## ACML-0402HC-121-T
designator FB?, comment 120 Ohm @ 100MHz
FERRITE CHIP 120 OHM 1200MA 0402; Part Number: ACML-0402HC-121-T; Manufacturer: Abracon LLC; DC Resistance: 100 mOhm; Current Rating: 1.2A; PartId: 6487; Value: 120 Ohm @ 100MHz; Supplier 1: Digi-Key; Supplier Part Number 1: 535-12546-2-ND; ComponentLink1Description: Datasheet; ComponentLink1URL: http://abracon.com/Magnetics/chips/ACML-0402HC.pdf; ComponentLink2Description: Digi-Key listing; ComponentLink2URL: http://digikey.com/product-detail/en/ACML-0402HC-121-T/535-12546-2-ND/4696684; Price: 0.025; Type: -; Device Package: 0402 (1005 Metric)
footprint FER 0402/1005
pins: 1, 2

## ACML-0402HC-221-T
designator FB?, comment 220 Ohm @ 100MHz
FERRITE CHIP 220 OHM 1000MA 0402; Part Number: ACML-0402HC-221-T; Manufacturer: Abracon LLC; DC Resistance: 250 mOhm; Current Rating: 1A; PartId: 6488; Value: 220 Ohm @ 100MHz; Supplier 1: Digi-Key; Supplier Part Number 1: 535-12547-2-ND; ComponentLink1Description: Datasheet; ComponentLink1URL: http://abracon.com/Magnetics/chips/ACML-0402HC.pdf; ComponentLink2Description: Digi-Key listing; ComponentLink2URL: http://digikey.com/product-detail/en/ACML-0402HC-221-T/535-12547-2-ND/4696685; Price: 0.025; Type: -; Device Package: 0402 (1005 Metric)
footprint FER 0402/1005
pins: 1, 2

## ACML-0402HC-301-T
designator FB?, comment 300 Ohm @ 100MHz
FERRITE CHIP 300 OHM 1000MA 0402; Part Number: ACML-0402HC-301-T; Manufacturer: Abracon LLC; DC Resistance: 300 mOhm; Current Rating: 1A; PartId: 6489; Value: 300 Ohm @ 100MHz; Supplier 1: Digi-Key; Supplier Part Number 1: 535-12548-2-ND; ComponentLink1Description: Datasheet; ComponentLink1URL: http://abracon.com/Magnetics/chips/ACML-0402HC.pdf; ComponentLink2Description: Digi-Key listing; ComponentLink2URL: http://digikey.com/product-detail/en/ACML-0402HC-301-T/535-12548-2-ND/4696686; Price: 0.025; Type: -; Device Package: 0402 (1005 Metric)
footprint FER 0402/1005
pins: 1, 2

## ACML-0402HC-310-T
designator FB?, comment 31 Ohm @ 100MHz
FERRITE CHIP 31 OHM 1500MA 0402; Part Number: ACML-0402HC-310-T; Manufacturer: Abracon LLC; DC Resistance: 60 mOhm; Current Rating: 1.5A; PartId: 6483; Value: 31 Ohm @ 100MHz; Supplier 1: Digi-Key; Supplier Part Number 1: 535-12543-2-ND; ComponentLink1Description: Datasheet; ComponentLink1URL: http://abracon.com/Magnetics/chips/ACML-0402HC.pdf; ComponentLink2Description: Digi-Key listing; ComponentLink2URL: http://digikey.com/product-detail/en/ACML-0402HC-310-T/535-12543-2-ND/4696681; Price: 0.025; Type: -; Device Package: 0402 (1005 Metric)
footprint FER 0402/1005
pins: 1, 2

## ACML-0402HC-600-T
designator FB?, comment 60 Ohm @ 100MHz
FERRITE CHIP 60 OHM 1500MA 0402; Part Number: ACML-0402HC-600-T; Manufacturer: Abracon LLC; DC Resistance: 80 mOhm; Current Rating: 1.5A; PartId: 6485; Value: 60 Ohm @ 100MHz; Supplier 1: Digi-Key; Supplier Part Number 1: 535-12544-2-ND; ComponentLink1Description: Datasheet; ComponentLink1URL: http://abracon.com/Magnetics/chips/ACML-0402HC.pdf; ComponentLink2Description: Digi-Key listing; ComponentLink2URL: http://digikey.com/product-detail/en/ACML-0402HC-600-T/535-12544-2-ND/4696682; Price: 0.025; Type: -; Device Package: 0402 (1005 Metric)
footprint FER 0402/1005
pins: 1, 2

## ACML-0402HC-700-T
designator FB?, comment 70 Ohm @ 100MHz
FERRITE CHIP 70 OHM 1300MA 0402; Part Number: ACML-0402HC-700-T; Manufacturer: Abracon LLC; DC Resistance: 100 mOhm; Current Rating: 1.3A; PartId: 6486; Value: 70 Ohm @ 100MHz; Supplier 1: Digi-Key; Supplier Part Number 1: 535-12545-2-ND; ComponentLink1Description: Datasheet; ComponentLink1URL: http://abracon.com/Magnetics/chips/ACML-0402HC.pdf; ComponentLink2Description: Digi-Key listing; ComponentLink2URL: http://digikey.com/product-detail/en/ACML-0402HC-700-T/535-12545-2-ND/4696683; Price: 0.025; Type: -; Device Package: 0402 (1005 Metric)
footprint FER 0402/1005
pins: 1, 2

## ACML-0603-060-T
designator FB?, comment 6 Ohm @ 100MHz
FERRITE CHIP 6 OHM 1000MA 0603; Part Number: ACML-0603-060-T; Manufacturer: Abracon LLC; Type: Differential Mode - Single; DC Resistance: 50 mOhm Max; Current Rating: 1A; PartId: 6624; Value: 6 Ohm @ 100MHz; Supplier 1: Digi-Key; Supplier Part Number 1: ACML-0603-060-TTR-ND; ComponentLink1Description: Datasheet; ComponentLink1URL: http://www.abracon.com/Magnetics/new/ACML-0603.pdf; ComponentLink2Description: Digi-Key listing; ComponentLink2URL: http://digikey.com/product-detail/en/ACML-0603-060-T/ACML-0603-060-TTR-ND/2343465; Price: 0.0275; Device Package: 0603 (1608 Metric)
footprint FER 0603/1608
pins: 1, 2

## ACML-0603-101-T
designator FB?, comment 100 Ohm @ 100MHz
FERRITE CHIP 100 OHM 200MA 0603; Part Number: ACML-0603-101-T; Manufacturer: Abracon LLC; Type: Differential Mode - Single; DC Resistance: 200 mOhm Max; PartId: 6626; Value: 100 Ohm @ 100MHz; Supplier 1: Digi-Key; Supplier Part Number 1: ACML-0603-101-TTR-ND; ComponentLink1Description: Datasheet; ComponentLink1URL: http://www.abracon.com/Magnetics/new/ACML-0603.pdf; ComponentLink2Description: Digi-Key listing; ComponentLink2URL: http://digikey.com/product-detail/en/ACML-0603-101-T/ACML-0603-101-TTR-ND/2343471; Price: 0.0275; Device Package: 0603 (1608 Metric); Current Rating: 200mA
footprint FER 0603/1608
pins: 1, 2

## ACML-0603-102-T
designator FB?, comment 1 kOhm @ 100MHz
FERRITE CHIP 1000 OHM 200MA 0603; Part Number: ACML-0603-102-T; Manufacturer: Abracon LLC; Type: Differential Mode - Single; DC Resistance: 800 mOhm Max; PartId: 6621; Value: 1 kOhm @ 100MHz; Supplier 1: Digi-Key; Supplier Part Number 1: ACML-0603-102-TTR-ND; ComponentLink1Description: Datasheet; ComponentLink1URL: http://www.abracon.com/Magnetics/new/ACML-0603.pdf; ComponentLink2Description: Digi-Key listing; ComponentLink2URL: http://digikey.com/product-detail/en/ACML-0603-102-T/ACML-0603-102-TTR-ND/2343478; Price: 0.0275; Device Package: 0603 (1608 Metric); Current Rating: 200mA
footprint FER 0603/1608
pins: 1, 2